# Altium integrated library Linear Technology Power Management LED Driver ICs.IntLib: 490 symbols (part 1 of 48)
Pins are listed as number, name and electrical type; pins without a type are passive.

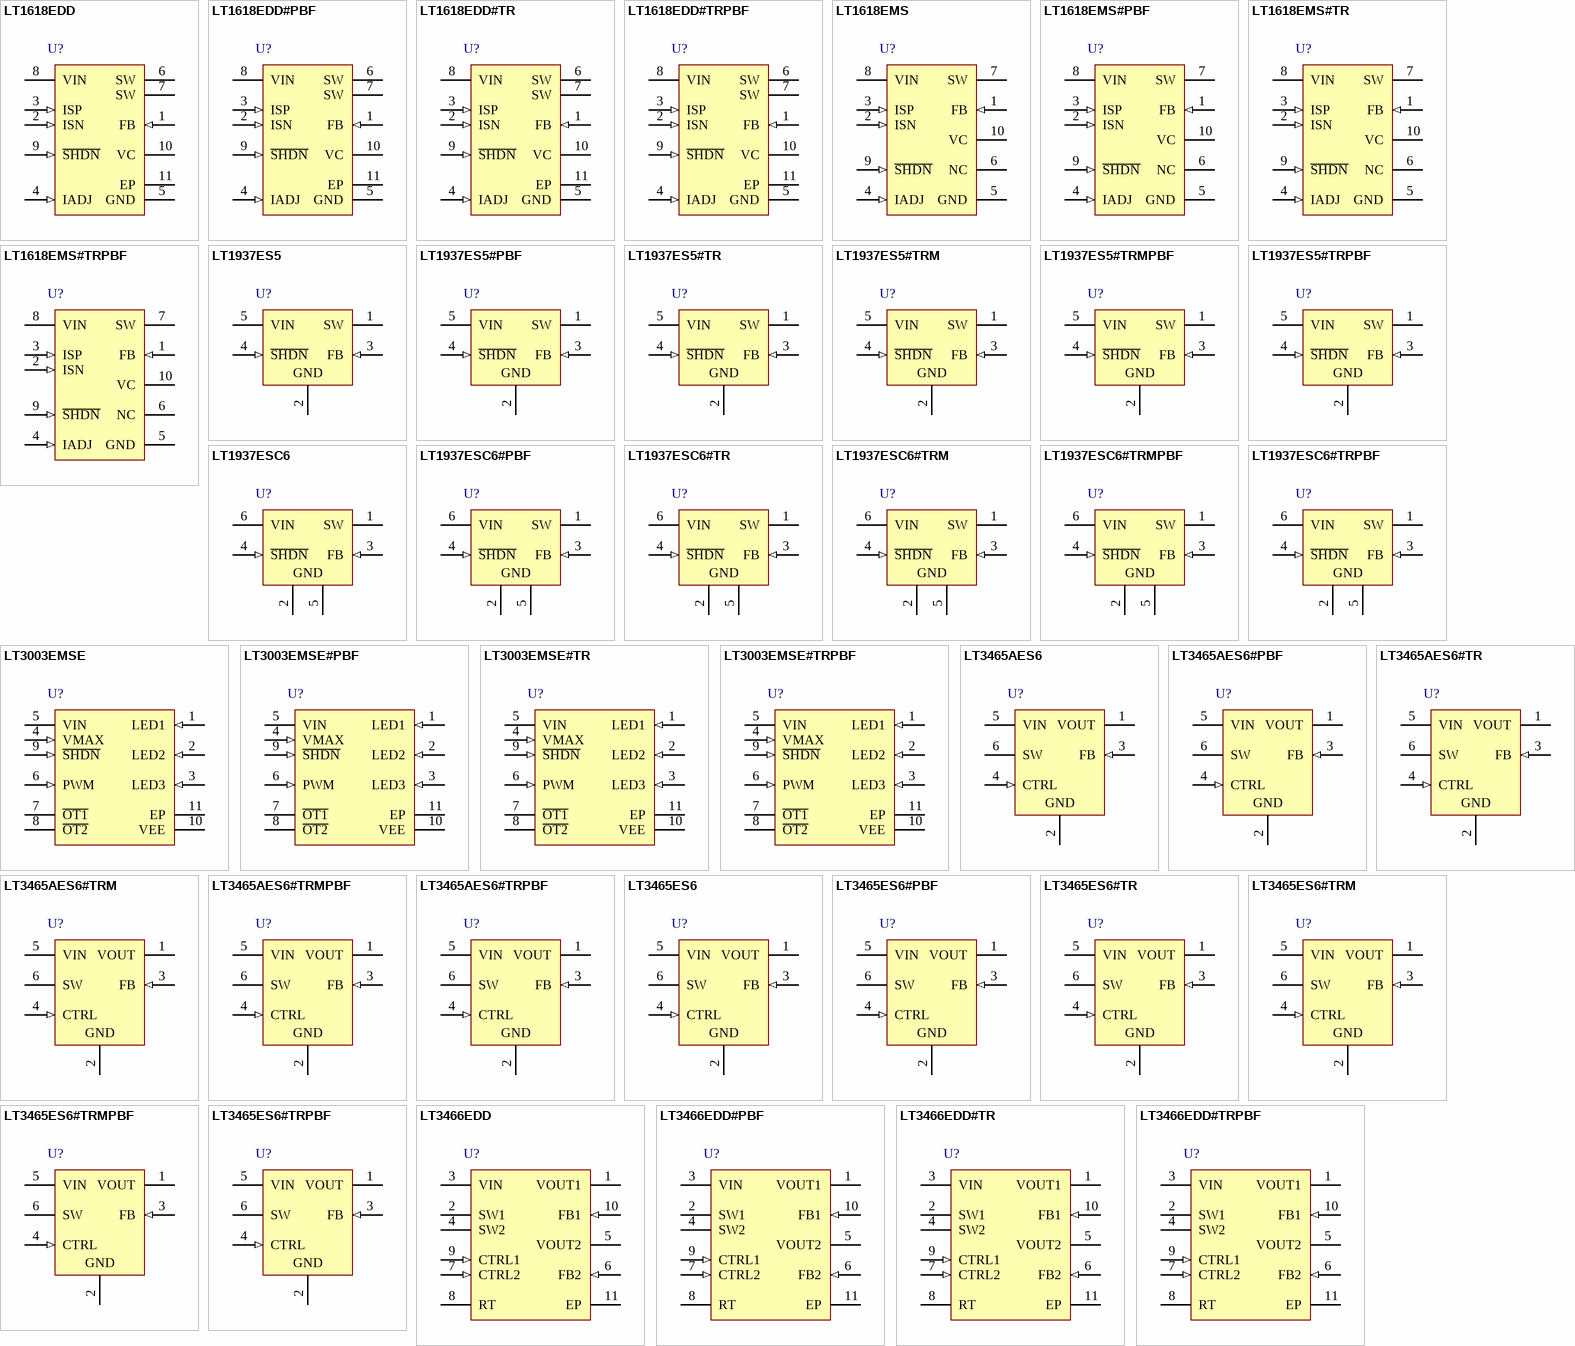
[diagram p0: symbols LT1618EDD to LT3466EDD#TRPBF]

## LT1618EDD
designator U?
Constant Current / Voltage 1.4 MHz Step-Up DC/DC Converter, 1.6 to 18 V Vin, 35 V Vout MAX, 10-pin SON (DD-10), -40 to 85 degC; Manufacturer: Linear Technology; PartNumber: LT1618EDD; Topology: Boost, Sepic, Flyback; Vin Min(V): 1.6; DatasheetVersion: Rev. A; PackageReference: DD-10; PackageDescription: 10-Pin Plastic DFN, Body 3 x 3 mm, Pitch 0.5 mm; Supplier 1: Digi-Key; Supplier Part Number 1: LT1618EDD-ND; RoHS: FALSE; Mounting Technology: Surface Mount; Code_JEDEC: MO-229; ComponentLink1Description: Manufacturer URL; ComponentLink1URL: http://www.linear.com/; ComponentLink2Description: Datasheet; ComponentLink2URL: http://cds.linear.com/docs/en/datasheet/1618fas.pdf; ComponentLink3Description: Package Specification; ComponentLink3URL: http://cds.linear.com/docs/en/datasheet/1618fas.pdf
footprint LT-DD-10-05-08-1698_V (SON, 10-Leads, Body 3x3mm, Pitch 0.5mm, Thermal Pad 1.65x2.38mm)
pins: 1 FB (in) "Feedback Pin. Set the output voltage by selecting values for R1 and R2 (see Figure 1):R1=R2(VOUT/1.263V-1)", 2 ISN (in) "Current Sense (-) Pin. The inverting input to the current sense amplifier.", 3 ISP (in) "Current Sense (+) Pin. The noninverting input to the current sense amplifier.", 4 IADJ (in) "Current Sense Adjust Pin. A DC voltage applied to this pin will reduce the current sense voltage. If this adjustment is not needed, tie this pin to ground.", 5 GND (power) "Ground Pin. Tie this pin directly to local ground plane.", 6 SW (power) "Switch Pin for DD Package. Connect this pin to Pin 7.", 7 SW (power) "Switch Pin. This is the collector of the internal NPN power switch. Minimize the metal trace area connected to this pin to minimize EMI.", 8 VIN (power) "Input Supply Pin. Bypass this pin with a capacitor to ground as close to the device as possible.", 9 ~{SHDN} (in) "Shutdown Pin. Tie this pin higher than 1V to turn on the LT1618; tie below 0.3V to turn it off.", 10 VC "Compensation Pin for Error Amplifier. Connect a series RC from this pin to ground. Typical values are 2kohm and 10nF.", 11 EP (power) "The Exposed Pad on the DD package is GND and must be soldered to the PCB GND for optimum thermal performance."

## LT1618EDD#PBF
designator U?
Constant Current / Voltage 1.4 MHz Step-Up DC/DC Converter, 1.6 to 18 V Vin, 35 V Vout MAX, 10-pin SON (DD-10), -40 to 85 degC, Pb-Free; Manufacturer: Linear Technology; PartNumber: LT1618EDD#PBF; Topology: Boost, Sepic, Flyback; Vin Min(V): 1.6; DatasheetVersion: Rev. A; PackageReference: DD-10; PackageDescription: 10-Pin Plastic DFN, Body 3 x 3 mm, Pitch 0.5 mm; Supplier 1: Digi-Key; Supplier Part Number 1: LT1618EDD#PBF-ND; Supplier 2: Farnell; Supplier Part Number 2: 2252766; Supplier 3: Newark; Supplier Part Number 3: 57M5244; RoHS: TRUE; Mounting Technology: Surface Mount; Code_JEDEC: MO-229; ComponentLink1Description: Manufacturer URL; ComponentLink1URL: http://www.linear.com/; ComponentLink2Description: Datasheet; ComponentLink2URL: http://cds.linear.com/docs/en/datasheet/1618fas.pdf; ComponentLink3Description: Package Specification; ComponentLink3URL: http://cds.linear.com/docs/en/datasheet/1618fas.pdf
footprint LT-DD-10-05-08-1698_V (SON, 10-Leads, Body 3x3mm, Pitch 0.5mm, Thermal Pad 1.65x2.38mm)
pins: 1 FB (in) "Feedback Pin. Set the output voltage by selecting values for R1 and R2 (see Figure 1):R1=R2(VOUT/1.263V-1)", 2 ISN (in) "Current Sense (-) Pin. The inverting input to the current sense amplifier.", 3 ISP (in) "Current Sense (+) Pin. The noninverting input to the current sense amplifier.", 4 IADJ (in) "Current Sense Adjust Pin. A DC voltage applied to this pin will reduce the current sense voltage. If this adjustment is not needed, tie this pin to ground.", 5 GND (power) "Ground Pin. Tie this pin directly to local ground plane.", 6 SW (power) "Switch Pin for DD Package. Connect this pin to Pin 7.", 7 SW (power) "Switch Pin. This is the collector of the internal NPN power switch. Minimize the metal trace area connected to this pin to minimize EMI.", 8 VIN (power) "Input Supply Pin. Bypass this pin with a capacitor to ground as close to the device as possible.", 9 ~{SHDN} (in) "Shutdown Pin. Tie this pin higher than 1V to turn on the LT1618; tie below 0.3V to turn it off.", 10 VC "Compensation Pin for Error Amplifier. Connect a series RC from this pin to ground. Typical values are 2kohm and 10nF.", 11 EP (power) "The Exposed Pad on the DD package is GND and must be soldered to the PCB GND for optimum thermal performance."

## LT1618EDD#TR
designator U?
Constant Current / Voltage 1.4 MHz Step-Up DC/DC Converter, 1.6 to 18 V Vin, 35 V Vout MAX, 10-pin SON (DD-10), -40 to 85 degC, Tape and Reel; Manufacturer: Linear Technology; PartNumber: LT1618EDD#TR; Topology: Boost, Sepic, Flyback; Vin Min(V): 1.6; DatasheetVersion: Rev. A; PackageReference: DD-10; PackageDescription: 10-Pin Plastic DFN, Body 3 x 3 mm, Pitch 0.5 mm; Supplier 1: Digi-Key; Supplier Part Number 1: LT1618EDD#TR-ND; Packing: Tape and Reel; RoHS: FALSE; Mounting Technology: Surface Mount; Code_JEDEC: MO-229; ComponentLink1Description: Manufacturer URL; ComponentLink1URL: http://www.linear.com/; ComponentLink2Description: Datasheet; ComponentLink2URL: http://cds.linear.com/docs/en/datasheet/1618fas.pdf; ComponentLink3Description: Package Specification; ComponentLink3URL: http://cds.linear.com/docs/en/datasheet/1618fas.pdf
footprint LT-DD-10-05-08-1698_V (SON, 10-Leads, Body 3x3mm, Pitch 0.5mm, Thermal Pad 1.65x2.38mm)
pins: 1 FB (in) "Feedback Pin. Set the output voltage by selecting values for R1 and R2 (see Figure 1):R1=R2(VOUT/1.263V-1)", 2 ISN (in) "Current Sense (-) Pin. The inverting input to the current sense amplifier.", 3 ISP (in) "Current Sense (+) Pin. The noninverting input to the current sense amplifier.", 4 IADJ (in) "Current Sense Adjust Pin. A DC voltage applied to this pin will reduce the current sense voltage. If this adjustment is not needed, tie this pin to ground.", 5 GND (power) "Ground Pin. Tie this pin directly to local ground plane.", 6 SW (power) "Switch Pin for DD Package. Connect this pin to Pin 7.", 7 SW (power) "Switch Pin. This is the collector of the internal NPN power switch. Minimize the metal trace area connected to this pin to minimize EMI.", 8 VIN (power) "Input Supply Pin. Bypass this pin with a capacitor to ground as close to the device as possible.", 9 ~{SHDN} (in) "Shutdown Pin. Tie this pin higher than 1V to turn on the LT1618; tie below 0.3V to turn it off.", 10 VC "Compensation Pin for Error Amplifier. Connect a series RC from this pin to ground. Typical values are 2kohm and 10nF.", 11 EP (power) "The Exposed Pad on the DD package is GND and must be soldered to the PCB GND for optimum thermal performance."

## LT1618EDD#TRPBF
designator U?
Constant Current / Voltage 1.4 MHz Step-Up DC/DC Converter, 1.6 to 18 V Vin, 35 V Vout MAX, 10-pin SON (DD-10), -40 to 85 degC, Pb-Free, Tape and Reel; Manufacturer: Linear Technology; PartNumber: LT1618EDD#TRPBF; Topology: Boost, Sepic, Flyback; Vin Min(V): 1.6; DatasheetVersion: Rev. A; PackageReference: DD-10; PackageDescription: 10-Pin Plastic DFN, Body 3 x 3 mm, Pitch 0.5 mm; Supplier 1: Digi-Key; Supplier Part Number 1: LT1618EDD#TRPBF-ND; Supplier 2: Newark; Supplier Part Number 2: 57M5246; Packing: Tape and Reel; RoHS: TRUE; Mounting Technology: Surface Mount; Code_JEDEC: MO-229; ComponentLink1Description: Manufacturer URL; ComponentLink1URL: http://www.linear.com/; ComponentLink2Description: Datasheet; ComponentLink2URL: http://cds.linear.com/docs/en/datasheet/1618fas.pdf; ComponentLink3Description: Package Specification; ComponentLink3URL: http://cds.linear.com/docs/en/datasheet/1618fas.pdf
footprint LT-DD-10-05-08-1698_V (SON, 10-Leads, Body 3x3mm, Pitch 0.5mm, Thermal Pad 1.65x2.38mm)
pins: 1 FB (in) "Feedback Pin. Set the output voltage by selecting values for R1 and R2 (see Figure 1):R1=R2(VOUT/1.263V-1)", 2 ISN (in) "Current Sense (-) Pin. The inverting input to the current sense amplifier.", 3 ISP (in) "Current Sense (+) Pin. The noninverting input to the current sense amplifier.", 4 IADJ (in) "Current Sense Adjust Pin. A DC voltage applied to this pin will reduce the current sense voltage. If this adjustment is not needed, tie this pin to ground.", 5 GND (power) "Ground Pin. Tie this pin directly to local ground plane.", 6 SW (power) "Switch Pin for DD Package. Connect this pin to Pin 7.", 7 SW (power) "Switch Pin. This is the collector of the internal NPN power switch. Minimize the metal trace area connected to this pin to minimize EMI.", 8 VIN (power) "Input Supply Pin. Bypass this pin with a capacitor to ground as close to the device as possible.", 9 ~{SHDN} (in) "Shutdown Pin. Tie this pin higher than 1V to turn on the LT1618; tie below 0.3V to turn it off.", 10 VC "Compensation Pin for Error Amplifier. Connect a series RC from this pin to ground. Typical values are 2kohm and 10nF.", 11 EP (power) "The Exposed Pad on the DD package is GND and must be soldered to the PCB GND for optimum thermal performance."

## LT1618EMS
designator U?
Constant Current / Voltage 1.4 MHz Step-Up DC/DC Converter, 1.6 to 18 V Vin, 35 V Vout MAX, 10-pin SOP (MS-10), -40 to 85 degC; Manufacturer: Linear Technology; PartNumber: LT1618EMS; Topology: Boost, Sepic, Flyback; Vin Min(V): 1.6; DatasheetVersion: Rev. A; PackageVersion: Rev. E, 06/2010; PackageReference: MS-10; PackageDescription: 10-Pin Plastic MSOP, Body 3 x 3 mm, Pitch 0.5 mm; Supplier 1: Digi-Key; Supplier Part Number 1: LT1618EMS-ND; Supplier 2: Newark; Supplier Part Number 2: 57M5247; RoHS: FALSE; Mounting Technology: Surface Mount; ComponentLink1Description: Manufacturer URL; ComponentLink1URL: http://www.linear.com/; ComponentLink2Description: Datasheet; ComponentLink2URL: http://cds.linear.com/docs/en/datasheet/1618fas.pdf; ComponentLink3Description: Package Specification; ComponentLink3URL: http://cds.linear.com/docs/en/packaging/05081661_F_MS.pdf
footprint LT-MS-10_N (SOP, 10-Leads, Body 3.1x3.1mm, Pitch 0.5mm, IPC Medium Density)
footprint LT-MS-10_L (SOP, 10-Leads, Body 3.1x3.1mm, Pitch 0.5mm, IPC High Density)
footprint LT-MS-10_M (SOP, 10-Leads, Body 3.1x3.1mm, Pitch 0.5mm, IPC Low Density)
pins: 1 FB (in) "Feedback Pin. Set the output voltage by selecting values for R1 and R2 (see Figure 1):R1=R2(VOUT/1.263V-1)", 2 ISN (in) "Current Sense (-) Pin. The inverting input to the current sense amplifier.", 3 ISP (in) "Current Sense (+) Pin. The noninverting input to the current sense amplifier.", 4 IADJ (in) "Current Sense Adjust Pin. A DC voltage applied to this pin will reduce the current sense voltage. If this adjustment is not needed, tie this pin to ground.", 5 GND (power) "Ground Pin. Tie this pin directly to local ground plane.", 6 NC "No Connection for MS Package.", 7 SW (power) "Switch Pin. This is the collector of the internal NPN power switch. Minimize the metal trace area connected to this pin to minimize EMI.", 8 VIN (power) "Input Supply Pin. Bypass this pin with a capacitor to ground as close to the device as possible.", 9 ~{SHDN} (in) "Shutdown Pin. Tie this pin higher than 1V to turn on the LT1618; tie below 0.3V to turn it off.", 10 VC "Compensation Pin for Error Amplifier. Connect a series RC from this pin to ground. Typical values are 2kohm and 10nF."

## LT1618EMS#PBF
designator U?
Constant Current / Voltage 1.4 MHz Step-Up DC/DC Converter, 1.6 to 18 V Vin, 35 V Vout MAX, 10-pin SOP (MS-10), -40 to 85 degC, Pb-Free; Manufacturer: Linear Technology; PartNumber: LT1618EMS#PBF; Topology: Boost, Sepic, Flyback; Vin Min(V): 1.6; DatasheetVersion: Rev. A; PackageVersion: Rev. E, 06/2010; PackageReference: MS-10; PackageDescription: 10-Pin Plastic MSOP, Body 3 x 3 mm, Pitch 0.5 mm; Supplier 1: Digi-Key; Supplier Part Number 1: LT1618EMS#PBF-ND; Supplier 2: Newark; Supplier Part Number 2: 57M5248; RoHS: TRUE; Mounting Technology: Surface Mount; ComponentLink1Description: Manufacturer URL; ComponentLink1URL: http://www.linear.com/; ComponentLink2Description: Datasheet; ComponentLink2URL: http://cds.linear.com/docs/en/datasheet/1618fas.pdf; ComponentLink3Description: Package Specification; ComponentLink3URL: http://cds.linear.com/docs/en/packaging/05081661_F_MS.pdf
footprint LT-MS-10_N (SOP, 10-Leads, Body 3.1x3.1mm, Pitch 0.5mm, IPC Medium Density)
footprint LT-MS-10_L (SOP, 10-Leads, Body 3.1x3.1mm, Pitch 0.5mm, IPC High Density)
footprint LT-MS-10_M (SOP, 10-Leads, Body 3.1x3.1mm, Pitch 0.5mm, IPC Low Density)
pins: 1 FB (in) "Feedback Pin. Set the output voltage by selecting values for R1 and R2 (see Figure 1):R1=R2(VOUT/1.263V-1)", 2 ISN (in) "Current Sense (-) Pin. The inverting input to the current sense amplifier.", 3 ISP (in) "Current Sense (+) Pin. The noninverting input to the current sense amplifier.", 4 IADJ (in) "Current Sense Adjust Pin. A DC voltage applied to this pin will reduce the current sense voltage. If this adjustment is not needed, tie this pin to ground.", 5 GND (power) "Ground Pin. Tie this pin directly to local ground plane.", 6 NC "No Connection for MS Package.", 7 SW (power) "Switch Pin. This is the collector of the internal NPN power switch. Minimize the metal trace area connected to this pin to minimize EMI.", 8 VIN (power) "Input Supply Pin. Bypass this pin with a capacitor to ground as close to the device as possible.", 9 ~{SHDN} (in) "Shutdown Pin. Tie this pin higher than 1V to turn on the LT1618; tie below 0.3V to turn it off.", 10 VC "Compensation Pin for Error Amplifier. Connect a series RC from this pin to ground. Typical values are 2kohm and 10nF."

## LT1618EMS#TR
designator U?
Constant Current / Voltage 1.4 MHz Step-Up DC/DC Converter, 1.6 to 18 V Vin, 35 V Vout MAX, 10-pin SOP (MS-10), -40 to 85 degC, Tape and Reel; Manufacturer: Linear Technology; PartNumber: LT1618EMS#TR; Topology: Boost, Sepic, Flyback; Vin Min(V): 1.6; DatasheetVersion: Rev. A; PackageVersion: Rev. E, 06/2010; PackageReference: MS-10; PackageDescription: 10-Pin Plastic MSOP, Body 3 x 3 mm, Pitch 0.5 mm; Supplier 1: Digi-Key; Supplier Part Number 1: LT1618EMSTR-ND; Packing: Tape and Reel; RoHS: FALSE; Mounting Technology: Surface Mount; ComponentLink1Description: Manufacturer URL; ComponentLink1URL: http://www.linear.com/; ComponentLink2Description: Datasheet; ComponentLink2URL: http://cds.linear.com/docs/en/datasheet/1618fas.pdf; ComponentLink3Description: Package Specification; ComponentLink3URL: http://cds.linear.com/docs/en/packaging/05081661_F_MS.pdf
footprint LT-MS-10_N (SOP, 10-Leads, Body 3.1x3.1mm, Pitch 0.5mm, IPC Medium Density)
footprint LT-MS-10_L (SOP, 10-Leads, Body 3.1x3.1mm, Pitch 0.5mm, IPC High Density)
footprint LT-MS-10_M (SOP, 10-Leads, Body 3.1x3.1mm, Pitch 0.5mm, IPC Low Density)
pins: 1 FB (in) "Feedback Pin. Set the output voltage by selecting values for R1 and R2 (see Figure 1):R1=R2(VOUT/1.263V-1)", 2 ISN (in) "Current Sense (-) Pin. The inverting input to the current sense amplifier.", 3 ISP (in) "Current Sense (+) Pin. The noninverting input to the current sense amplifier.", 4 IADJ (in) "Current Sense Adjust Pin. A DC voltage applied to this pin will reduce the current sense voltage. If this adjustment is not needed, tie this pin to ground.", 5 GND (power) "Ground Pin. Tie this pin directly to local ground plane.", 6 NC "No Connection for MS Package.", 7 SW (power) "Switch Pin. This is the collector of the internal NPN power switch. Minimize the metal trace area connected to this pin to minimize EMI.", 8 VIN (power) "Input Supply Pin. Bypass this pin with a capacitor to ground as close to the device as possible.", 9 ~{SHDN} (in) "Shutdown Pin. Tie this pin higher than 1V to turn on the LT1618; tie below 0.3V to turn it off.", 10 VC "Compensation Pin for Error Amplifier. Connect a series RC from this pin to ground. Typical values are 2kohm and 10nF."

## LT1618EMS#TRPBF
designator U?
Constant Current / Voltage 1.4 MHz Step-Up DC/DC Converter, 1.6 to 18 V Vin, 35 V Vout MAX, 10-pin SOP (MS-10), -40 to 85 degC, Pb-Free, Tape and Reel; Manufacturer: Linear Technology; PartNumber: LT1618EMS#TRPBF; Topology: Boost, Sepic, Flyback; Vin Min(V): 1.6; DatasheetVersion: Rev. A; PackageVersion: Rev. E, 06/2010; PackageReference: MS-10; PackageDescription: 10-Pin Plastic MSOP, Body 3 x 3 mm, Pitch 0.5 mm; Supplier 1: Digi-Key; Supplier Part Number 1: LT1618EMS#TRPBFTR-ND; Supplier 2: Digi-Key; Supplier Part Number 2: LT1618EMS#TRPBFCT-ND; Supplier 3: Digi-Key; Supplier Part Number 3: LT1618EMS#TRPBFDKR-ND; Supplier 4: Newark; Supplier Part Number 4: 57M5250; Packing: Tape and Reel; RoHS: TRUE; Mounting Technology: Surface Mount; ComponentLink1Description: Manufacturer URL; ComponentLink1URL: http://www.linear.com/; ComponentLink2Description: Datasheet; ComponentLink2URL: http://cds.linear.com/docs/en/datasheet/1618fas.pdf; ComponentLink3Description: Package Specification; ComponentLink3URL: http://cds.linear.com/docs/en/packaging/05081661_F_MS.pdf
footprint LT-MS-10_N (SOP, 10-Leads, Body 3.1x3.1mm, Pitch 0.5mm, IPC Medium Density)
footprint LT-MS-10_L (SOP, 10-Leads, Body 3.1x3.1mm, Pitch 0.5mm, IPC High Density)
footprint LT-MS-10_M (SOP, 10-Leads, Body 3.1x3.1mm, Pitch 0.5mm, IPC Low Density)
pins: 1 FB (in) "Feedback Pin. Set the output voltage by selecting values for R1 and R2 (see Figure 1):R1=R2(VOUT/1.263V-1)", 2 ISN (in) "Current Sense (-) Pin. The inverting input to the current sense amplifier.", 3 ISP (in) "Current Sense (+) Pin. The noninverting input to the current sense amplifier.", 4 IADJ (in) "Current Sense Adjust Pin. A DC voltage applied to this pin will reduce the current sense voltage. If this adjustment is not needed, tie this pin to ground.", 5 GND (power) "Ground Pin. Tie this pin directly to local ground plane.", 6 NC "No Connection for MS Package.", 7 SW (power) "Switch Pin. This is the collector of the internal NPN power switch. Minimize the metal trace area connected to this pin to minimize EMI.", 8 VIN (power) "Input Supply Pin. Bypass this pin with a capacitor to ground as close to the device as possible.", 9 ~{SHDN} (in) "Shutdown Pin. Tie this pin higher than 1V to turn on the LT1618; tie below 0.3V to turn it off.", 10 VC "Compensation Pin for Error Amplifier. Connect a series RC from this pin to ground. Typical values are 2kohm and 10nF."

## LT1937ES5
designator U?
84%, Constant-Current / Voltage Ideal for Driving 4 White LEDs, 2.5 to 10 V Vin, 36 V Vout MAX, 5-pin SOT23 (S5-5), -40 to 85 degC; Manufacturer: Linear Technology; PartNumber: LT1937ES5; Topology: Boost, LED Driver; Vin Min(V): 2.5; PackageVersion: Jun-10; PackageReference: S5-5; PackageDescription: 5-Pin Plastic TSOT-23, Body 1.63 x 2.90 mm, Pitch 0.95 mm; RoHS: FALSE; Mounting Technology: Surface Mount; Code_JEDEC: MO-193; ComponentLink1Description: Manufacturer URL; ComponentLink1URL: http://www.linear.com/; ComponentLink2Description: Datasheet; ComponentLink2URL: http://cds.linear.com/docs/en/datasheet/1937f.pdf; ComponentLink3Description: Package Specification; ComponentLink3URL: http://cds.linear.com/docs/en/packaging/SOT_5_05-08-1635.pdf
footprint LT-S5-5-TSOT-23_N (SOT23, 5-Leads, Body 2.90x1.63mm, Pitch 0.95mm, IPC Medium Density)
footprint LT-S5-5-TSOT-23_L (SOT23, 5-Leads, Body 2.90x1.63mm, Pitch 0.95mm, IPC High Density)
footprint LT-S5-5-TSOT-23_M (SOT23, 5-Leads, Body 2.90x1.63mm, Pitch 0.95mm, IPC Low Density)
pins: 1 SW (power) "Switch Pin. Connect inductor/diode here.Minimize trace area at this pin to reduce EMI.", 2 GND (power) "Ground Pin. Connect directly to local ground plane.", 3 FB (in) "Feedback Pin. Reference voltage is 95mV. Connect cathode of lowest LED and resistor here.", 4 ~{SHDN} (in) "Shutdown Pin. Connect to 1.5V or higher to enable device; 0.4V or less to disable device.", 5 VIN (power) "Input Supply Pin. Must be locally bypassed."

## LT1937ES5#PBF
designator U?
84%, Constant-Current / Voltage Ideal for Driving 4 White LEDs, 2.5 to 10 V Vin, 36 V Vout MAX, 5-pin SOT23 (S5-5), -40 to 85 degC, Pb-Free; Manufacturer: Linear Technology; PartNumber: LT1937ES5#PBF; Topology: Boost, LED Driver; Vin Min(V): 2.5; PackageVersion: Jun-10; PackageReference: S5-5; PackageDescription: 5-Pin Plastic TSOT-23, Body 1.63 x 2.90 mm, Pitch 0.95 mm; Supplier 1: Farnell; Supplier Part Number 1: 2308191; Supplier 2: Newark; Supplier Part Number 2: 78T3769; RoHS: TRUE; Mounting Technology: Surface Mount; Code_JEDEC: MO-193; ComponentLink1Description: Manufacturer URL; ComponentLink1URL: http://www.linear.com/; ComponentLink2Description: Datasheet; ComponentLink2URL: http://cds.linear.com/docs/en/datasheet/1937f.pdf; ComponentLink3Description: Package Specification; ComponentLink3URL: http://cds.linear.com/docs/en/packaging/SOT_5_05-08-1635.pdf
footprint LT-S5-5-TSOT-23_N (SOT23, 5-Leads, Body 2.90x1.63mm, Pitch 0.95mm, IPC Medium Density)
footprint LT-S5-5-TSOT-23_L (SOT23, 5-Leads, Body 2.90x1.63mm, Pitch 0.95mm, IPC High Density)
footprint LT-S5-5-TSOT-23_M (SOT23, 5-Leads, Body 2.90x1.63mm, Pitch 0.95mm, IPC Low Density)
pins: 1 SW (power) "Switch Pin. Connect inductor/diode here.Minimize trace area at this pin to reduce EMI.", 2 GND (power) "Ground Pin. Connect directly to local ground plane.", 3 FB (in) "Feedback Pin. Reference voltage is 95mV. Connect cathode of lowest LED and resistor here.", 4 ~{SHDN} (in) "Shutdown Pin. Connect to 1.5V or higher to enable device; 0.4V or less to disable device.", 5 VIN (power) "Input Supply Pin. Must be locally bypassed."

## LT1937ES5#TR
designator U?
84%, Constant-Current / Voltage Ideal for Driving 4 White LEDs, 2.5 to 10 V Vin, 36 V Vout MAX, 5-pin SOT23 (S5-5), -40 to 85 degC, Tape and Reel; Manufacturer: Linear Technology; PartNumber: LT1937ES5#TR; Topology: Boost, LED Driver; Vin Min(V): 2.5; PackageVersion: Jun-10; PackageReference: S5-5; PackageDescription: 5-Pin Plastic TSOT-23, Body 1.63 x 2.90 mm, Pitch 0.95 mm; Supplier 1: Digi-Key; Supplier Part Number 1: LT1937ES5TR-ND; Packing: Tape and Reel; RoHS: FALSE; Mounting Technology: Surface Mount; Code_JEDEC: MO-193; ComponentLink1Description: Manufacturer URL; ComponentLink1URL: http://www.linear.com/; ComponentLink2Description: Datasheet; ComponentLink2URL: http://cds.linear.com/docs/en/datasheet/1937f.pdf; ComponentLink3Description: Package Specification; ComponentLink3URL: http://cds.linear.com/docs/en/packaging/SOT_5_05-08-1635.pdf
footprint LT-S5-5-TSOT-23_N (SOT23, 5-Leads, Body 2.90x1.63mm, Pitch 0.95mm, IPC Medium Density)
footprint LT-S5-5-TSOT-23_L (SOT23, 5-Leads, Body 2.90x1.63mm, Pitch 0.95mm, IPC High Density)
footprint LT-S5-5-TSOT-23_M (SOT23, 5-Leads, Body 2.90x1.63mm, Pitch 0.95mm, IPC Low Density)
pins: 1 SW (power) "Switch Pin. Connect inductor/diode here.Minimize trace area at this pin to reduce EMI.", 2 GND (power) "Ground Pin. Connect directly to local ground plane.", 3 FB (in) "Feedback Pin. Reference voltage is 95mV. Connect cathode of lowest LED and resistor here.", 4 ~{SHDN} (in) "Shutdown Pin. Connect to 1.5V or higher to enable device; 0.4V or less to disable device.", 5 VIN (power) "Input Supply Pin. Must be locally bypassed."

## LT1937ES5#TRM
designator U?
84%, Constant-Current / Voltage Ideal for Driving 4 White LEDs, 2.5 to 10 V Vin, 36 V Vout MAX, 5-pin SOT23 (S5-5), -40 to 85 degC, Mini Tape and Reel; Manufacturer: Linear Technology; PartNumber: LT1937ES5#TRM; Topology: Boost, LED Driver; Vin Min(V): 2.5; PackageVersion: Jun-10; PackageReference: S5-5; PackageDescription: 5-Pin Plastic TSOT-23, Body 1.63 x 2.90 mm, Pitch 0.95 mm; Supplier 1: Digi-Key; Supplier Part Number 1: LT1937ES5#TRMCT-ND; Packing: Mini Tape and Reel; RoHS: FALSE; Mounting Technology: Surface Mount; Code_JEDEC: MO-193; ComponentLink1Description: Manufacturer URL; ComponentLink1URL: http://www.linear.com/; ComponentLink2Description: Datasheet; ComponentLink2URL: http://cds.linear.com/docs/en/datasheet/1937f.pdf; ComponentLink3Description: Package Specification; ComponentLink3URL: http://cds.linear.com/docs/en/packaging/SOT_5_05-08-1635.pdf
footprint LT-S5-5-TSOT-23_N (SOT23, 5-Leads, Body 2.90x1.63mm, Pitch 0.95mm, IPC Medium Density)
footprint LT-S5-5-TSOT-23_L (SOT23, 5-Leads, Body 2.90x1.63mm, Pitch 0.95mm, IPC High Density)
footprint LT-S5-5-TSOT-23_M (SOT23, 5-Leads, Body 2.90x1.63mm, Pitch 0.95mm, IPC Low Density)
pins: 1 SW (power) "Switch Pin. Connect inductor/diode here.Minimize trace area at this pin to reduce EMI.", 2 GND (power) "Ground Pin. Connect directly to local ground plane.", 3 FB (in) "Feedback Pin. Reference voltage is 95mV. Connect cathode of lowest LED and resistor here.", 4 ~{SHDN} (in) "Shutdown Pin. Connect to 1.5V or higher to enable device; 0.4V or less to disable device.", 5 VIN (power) "Input Supply Pin. Must be locally bypassed."

## LT1937ES5#TRMPBF
designator U?
84%, Constant-Current / Voltage Ideal for Driving 4 White LEDs, 2.5 to 10 V Vin, 36 V Vout MAX, 5-pin SOT23 (S5-5), -40 to 85 degC, Pb-Free, Mini Tape and Reel; Manufacturer: Linear Technology; PartNumber: LT1937ES5#TRMPBF; Topology: Boost, LED Driver; Vin Min(V): 2.5; PackageVersion: Jun-10; PackageReference: S5-5; PackageDescription: 5-Pin Plastic TSOT-23, Body 1.63 x 2.90 mm, Pitch 0.95 mm; Supplier 1: Digi-Key; Supplier Part Number 1: LT1937ES5#TRMPBFTR-ND; Supplier 2: Digi-Key; Supplier Part Number 2: LT1937ES5#TRMPBFCT-ND; Supplier 3: Digi-Key; Supplier Part Number 3: LT1937ES5#TRMPBFDKR-ND; Supplier 4: Newark; Supplier Part Number 4: 57M7239; Packing: Mini Tape and Reel; RoHS: TRUE; Mounting Technology: Surface Mount; Code_JEDEC: MO-193; ComponentLink1Description: Manufacturer URL; ComponentLink1URL: http://www.linear.com/; ComponentLink2Description: Datasheet; ComponentLink2URL: http://cds.linear.com/docs/en/datasheet/1937f.pdf; ComponentLink3Description: Package Specification; ComponentLink3URL: http://cds.linear.com/docs/en/packaging/SOT_5_05-08-1635.pdf
footprint LT-S5-5-TSOT-23_N (SOT23, 5-Leads, Body 2.90x1.63mm, Pitch 0.95mm, IPC Medium Density)
footprint LT-S5-5-TSOT-23_L (SOT23, 5-Leads, Body 2.90x1.63mm, Pitch 0.95mm, IPC High Density)
footprint LT-S5-5-TSOT-23_M (SOT23, 5-Leads, Body 2.90x1.63mm, Pitch 0.95mm, IPC Low Density)
pins: 1 SW (power) "Switch Pin. Connect inductor/diode here.Minimize trace area at this pin to reduce EMI.", 2 GND (power) "Ground Pin. Connect directly to local ground plane.", 3 FB (in) "Feedback Pin. Reference voltage is 95mV. Connect cathode of lowest LED and resistor here.", 4 ~{SHDN} (in) "Shutdown Pin. Connect to 1.5V or higher to enable device; 0.4V or less to disable device.", 5 VIN (power) "Input Supply Pin. Must be locally bypassed."

## LT1937ES5#TRPBF
designator U?
84%, Constant-Current / Voltage Ideal for Driving 4 White LEDs, 2.5 to 10 V Vin, 36 V Vout MAX, 5-pin SOT23 (S5-5), -40 to 85 degC, Pb-Free, Tape and Reel; Manufacturer: Linear Technology; PartNumber: LT1937ES5#TRPBF; Topology: Boost, LED Driver; Vin Min(V): 2.5; PackageVersion: Jun-10; PackageReference: S5-5; PackageDescription: 5-Pin Plastic TSOT-23, Body 1.63 x 2.90 mm, Pitch 0.95 mm; Supplier 1: Digi-Key; Supplier Part Number 1: LT1937ES5#TRPBF-ND; Packing: Tape and Reel; RoHS: TRUE; Mounting Technology: Surface Mount; Code_JEDEC: MO-193; ComponentLink1Description: Manufacturer URL; ComponentLink1URL: http://www.linear.com/; ComponentLink2Description: Datasheet; ComponentLink2URL: http://cds.linear.com/docs/en/datasheet/1937f.pdf; ComponentLink3Description: Package Specification; ComponentLink3URL: http://cds.linear.com/docs/en/packaging/SOT_5_05-08-1635.pdf
footprint LT-S5-5-TSOT-23_N (SOT23, 5-Leads, Body 2.90x1.63mm, Pitch 0.95mm, IPC Medium Density)
footprint LT-S5-5-TSOT-23_L (SOT23, 5-Leads, Body 2.90x1.63mm, Pitch 0.95mm, IPC High Density)
footprint LT-S5-5-TSOT-23_M (SOT23, 5-Leads, Body 2.90x1.63mm, Pitch 0.95mm, IPC Low Density)
pins: 1 SW (power) "Switch Pin. Connect inductor/diode here.Minimize trace area at this pin to reduce EMI.", 2 GND (power) "Ground Pin. Connect directly to local ground plane.", 3 FB (in) "Feedback Pin. Reference voltage is 95mV. Connect cathode of lowest LED and resistor here.", 4 ~{SHDN} (in) "Shutdown Pin. Connect to 1.5V or higher to enable device; 0.4V or less to disable device.", 5 VIN (power) "Input Supply Pin. Must be locally bypassed."

## LT1937ESC6
designator U?
84%, Constant-Current / Voltage Ideal for Driving 4 White LEDs, 2.5 to 10 V Vin, 36 V Vout MAX, 6-pin SOT23 (SC6-6), -40 to 85 degC; Manufacturer: Linear Technology; PartNumber: LT1937ESC6; Topology: Boost, LED Driver; Vin Min(V): 2.5; PackageVersion: Rev. B, 06/2010; PackageReference: SC6-6; PackageDescription: 6-Pin Plastic SC70, Body 2 x 1.25 mm, Pitch 0.65 mm; RoHS: FALSE; Mounting Technology: Surface Mount; Code_JEDEC: MO-203; ComponentLink1Description: Manufacturer URL; ComponentLink1URL: http://www.linear.com/; ComponentLink2Description: Datasheet; ComponentLink2URL: http://cds.linear.com/docs/en/datasheet/1937f.pdf; ComponentLink3Description: Package Specification; ComponentLink3URL: http://cds.linear.com/docs/en/packaging/SOT_6_05-08-1638.pdf
footprint LT-SC6-6-SC70_N (SOT23, 6-Leads, Body 2.2x1.35mm, Pitch 0.65mm, IPC Medium Density)
footprint LT-SC6-6-SC70_L (SOT23, 6-Leads, Body 2.2x1.35mm, Pitch 0.65mm, IPC High Density)
footprint LT-SC6-6-SC70_M (SOT23, 6-Leads, Body 2.2x1.35mm, Pitch 0.65mm, IPC Low Density)
pins: 1 SW (power) "Switch Pin. Connect inductor/diode here. Minimize trace area at this pin to reduce EMI.", 2 GND (power) "Ground Pin. Connect directly to local ground plane.", 3 FB (in) "Feedback Pin. Reference voltage is 95mV. Connect cathode of lowest LED and resistor here.", 4 ~{SHDN} (in) "Shutdown Pin. Connect to 1.5V or higher to enable device; 0.4V or less to disable device.", 5 GND (power) "Ground Pin. Connect to Pin 2 and to local ground plane.", 6 VIN (power) "Input Supply Pin. Must be locally bypassed."

## LT1937ESC6#PBF
designator U?
84%, Constant-Current / Voltage Ideal for Driving 4 White LEDs, 2.5 to 10 V Vin, 36 V Vout MAX, 6-pin SOT23 (SC6-6), -40 to 85 degC, Pb-Free; Manufacturer: Linear Technology; PartNumber: LT1937ESC6#PBF; Topology: Boost, LED Driver; Vin Min(V): 2.5; PackageVersion: Rev. B, 06/2010; PackageReference: SC6-6; PackageDescription: 6-Pin Plastic SC70, Body 2 x 1.25 mm, Pitch 0.65 mm; Supplier 1: Newark; Supplier Part Number 1: 78T3768; RoHS: TRUE; Mounting Technology: Surface Mount; Code_JEDEC: MO-203; ComponentLink1Description: Manufacturer URL; ComponentLink1URL: http://www.linear.com/; ComponentLink2Description: Datasheet; ComponentLink2URL: http://cds.linear.com/docs/en/datasheet/1937f.pdf; ComponentLink3Description: Package Specification; ComponentLink3URL: http://cds.linear.com/docs/en/packaging/SOT_6_05-08-1638.pdf
footprint LT-SC6-6-SC70_N (SOT23, 6-Leads, Body 2.2x1.35mm, Pitch 0.65mm, IPC Medium Density)
footprint LT-SC6-6-SC70_L (SOT23, 6-Leads, Body 2.2x1.35mm, Pitch 0.65mm, IPC High Density)
footprint LT-SC6-6-SC70_M (SOT23, 6-Leads, Body 2.2x1.35mm, Pitch 0.65mm, IPC Low Density)
pins: 1 SW (power) "Switch Pin. Connect inductor/diode here. Minimize trace area at this pin to reduce EMI.", 2 GND (power) "Ground Pin. Connect directly to local ground plane.", 3 FB (in) "Feedback Pin. Reference voltage is 95mV. Connect cathode of lowest LED and resistor here.", 4 ~{SHDN} (in) "Shutdown Pin. Connect to 1.5V or higher to enable device; 0.4V or less to disable device.", 5 GND (power) "Ground Pin. Connect to Pin 2 and to local ground plane.", 6 VIN (power) "Input Supply Pin. Must be locally bypassed."

## LT1937ESC6#TR
designator U?
84%, Constant-Current / Voltage Ideal for Driving 4 White LEDs, 2.5 to 10 V Vin, 36 V Vout MAX, 6-pin SOT23 (SC6-6), -40 to 85 degC, Tape and Reel; Manufacturer: Linear Technology; PartNumber: LT1937ESC6#TR; Topology: Boost, LED Driver; Vin Min(V): 2.5; PackageVersion: Rev. B, 06/2010; PackageReference: SC6-6; PackageDescription: 6-Pin Plastic SC70, Body 2 x 1.25 mm, Pitch 0.65 mm; Supplier 1: Digi-Key; Supplier Part Number 1: LT1937ESC6#TR-ND; Packing: Tape and Reel; RoHS: FALSE; Mounting Technology: Surface Mount; Code_JEDEC: MO-203; ComponentLink1Description: Manufacturer URL; ComponentLink1URL: http://www.linear.com/; ComponentLink2Description: Datasheet; ComponentLink2URL: http://cds.linear.com/docs/en/datasheet/1937f.pdf; ComponentLink3Description: Package Specification; ComponentLink3URL: http://cds.linear.com/docs/en/packaging/SOT_6_05-08-1638.pdf
footprint LT-SC6-6-SC70_N (SOT23, 6-Leads, Body 2.2x1.35mm, Pitch 0.65mm, IPC Medium Density)
footprint LT-SC6-6-SC70_L (SOT23, 6-Leads, Body 2.2x1.35mm, Pitch 0.65mm, IPC High Density)
footprint LT-SC6-6-SC70_M (SOT23, 6-Leads, Body 2.2x1.35mm, Pitch 0.65mm, IPC Low Density)
pins: 1 SW (power) "Switch Pin. Connect inductor/diode here. Minimize trace area at this pin to reduce EMI.", 2 GND (power) "Ground Pin. Connect directly to local ground plane.", 3 FB (in) "Feedback Pin. Reference voltage is 95mV. Connect cathode of lowest LED and resistor here.", 4 ~{SHDN} (in) "Shutdown Pin. Connect to 1.5V or higher to enable device; 0.4V or less to disable device.", 5 GND (power) "Ground Pin. Connect to Pin 2 and to local ground plane.", 6 VIN (power) "Input Supply Pin. Must be locally bypassed."

## LT1937ESC6#TRM
designator U?
84%, Constant-Current / Voltage Ideal for Driving 4 White LEDs, 2.5 to 10 V Vin, 36 V Vout MAX, 6-pin SOT23 (SC6-6), -40 to 85 degC, Mini Tape and Reel; Manufacturer: Linear Technology; PartNumber: LT1937ESC6#TRM; Topology: Boost, LED Driver; Vin Min(V): 2.5; PackageVersion: Rev. B, 06/2010; PackageReference: SC6-6; PackageDescription: 6-Pin Plastic SC70, Body 2 x 1.25 mm, Pitch 0.65 mm; Supplier 1: Digi-Key; Supplier Part Number 1: LT1937ESC6#TRM-ND; Packing: Mini Tape and Reel; RoHS: FALSE; Mounting Technology: Surface Mount; Code_JEDEC: MO-203; ComponentLink1Description: Manufacturer URL; ComponentLink1URL: http://www.linear.com/; ComponentLink2Description: Datasheet; ComponentLink2URL: http://cds.linear.com/docs/en/datasheet/1937f.pdf; ComponentLink3Description: Package Specification; ComponentLink3URL: http://cds.linear.com/docs/en/packaging/SOT_6_05-08-1638.pdf
footprint LT-SC6-6-SC70_N (SOT23, 6-Leads, Body 2.2x1.35mm, Pitch 0.65mm, IPC Medium Density)
footprint LT-SC6-6-SC70_L (SOT23, 6-Leads, Body 2.2x1.35mm, Pitch 0.65mm, IPC High Density)
footprint LT-SC6-6-SC70_M (SOT23, 6-Leads, Body 2.2x1.35mm, Pitch 0.65mm, IPC Low Density)
pins: 1 SW (power) "Switch Pin. Connect inductor/diode here. Minimize trace area at this pin to reduce EMI.", 2 GND (power) "Ground Pin. Connect directly to local ground plane.", 3 FB (in) "Feedback Pin. Reference voltage is 95mV. Connect cathode of lowest LED and resistor here.", 4 ~{SHDN} (in) "Shutdown Pin. Connect to 1.5V or higher to enable device; 0.4V or less to disable device.", 5 GND (power) "Ground Pin. Connect to Pin 2 and to local ground plane.", 6 VIN (power) "Input Supply Pin. Must be locally bypassed."

## LT1937ESC6#TRMPBF
designator U?
84%, Constant-Current / Voltage Ideal for Driving 4 White LEDs, 2.5 to 10 V Vin, 36 V Vout MAX, 6-pin SOT23 (SC6-6), -40 to 85 degC, Pb-Free, Mini Tape and Reel; Manufacturer: Linear Technology; PartNumber: LT1937ESC6#TRMPBF; Topology: Boost, LED Driver; Vin Min(V): 2.5; PackageVersion: Rev. B, 06/2010; PackageReference: SC6-6; PackageDescription: 6-Pin Plastic SC70, Body 2 x 1.25 mm, Pitch 0.65 mm; Supplier 1: Digi-Key; Supplier Part Number 1: LT1937ESC6#TRMPBF-ND; Packing: Mini Tape and Reel; RoHS: TRUE; Mounting Technology: Surface Mount; Code_JEDEC: MO-203; ComponentLink1Description: Manufacturer URL; ComponentLink1URL: http://www.linear.com/; ComponentLink2Description: Datasheet; ComponentLink2URL: http://cds.linear.com/docs/en/datasheet/1937f.pdf; ComponentLink3Description: Package Specification; ComponentLink3URL: http://cds.linear.com/docs/en/packaging/SOT_6_05-08-1638.pdf
footprint LT-SC6-6-SC70_N (SOT23, 6-Leads, Body 2.2x1.35mm, Pitch 0.65mm, IPC Medium Density)
footprint LT-SC6-6-SC70_L (SOT23, 6-Leads, Body 2.2x1.35mm, Pitch 0.65mm, IPC High Density)
footprint LT-SC6-6-SC70_M (SOT23, 6-Leads, Body 2.2x1.35mm, Pitch 0.65mm, IPC Low Density)
pins: 1 SW (power) "Switch Pin. Connect inductor/diode here. Minimize trace area at this pin to reduce EMI.", 2 GND (power) "Ground Pin. Connect directly to local ground plane.", 3 FB (in) "Feedback Pin. Reference voltage is 95mV. Connect cathode of lowest LED and resistor here.", 4 ~{SHDN} (in) "Shutdown Pin. Connect to 1.5V or higher to enable device; 0.4V or less to disable device.", 5 GND (power) "Ground Pin. Connect to Pin 2 and to local ground plane.", 6 VIN (power) "Input Supply Pin. Must be locally bypassed."

## LT1937ESC6#TRPBF
designator U?
84%, Constant-Current / Voltage Ideal for Driving 4 White LEDs, 2.5 to 10 V Vin, 36 V Vout MAX, 6-pin SOT23 (SC6-6), -40 to 85 degC, Pb-Free, Tape and Reel; Manufacturer: Linear Technology; PartNumber: LT1937ESC6#TRPBF; Topology: Boost, LED Driver; Vin Min(V): 2.5; PackageVersion: Rev. B, 06/2010; PackageReference: SC6-6; PackageDescription: 6-Pin Plastic SC70, Body 2 x 1.25 mm, Pitch 0.65 mm; Supplier 1: Digi-Key; Supplier Part Number 1: LT1937ESC6#TRPBF-ND; Packing: Tape and Reel; RoHS: TRUE; Mounting Technology: Surface Mount; Code_JEDEC: MO-203; ComponentLink1Description: Manufacturer URL; ComponentLink1URL: http://www.linear.com/; ComponentLink2Description: Datasheet; ComponentLink2URL: http://cds.linear.com/docs/en/datasheet/1937f.pdf; ComponentLink3Description: Package Specification; ComponentLink3URL: http://cds.linear.com/docs/en/packaging/SOT_6_05-08-1638.pdf
footprint LT-SC6-6-SC70_N (SOT23, 6-Leads, Body 2.2x1.35mm, Pitch 0.65mm, IPC Medium Density)
footprint LT-SC6-6-SC70_L (SOT23, 6-Leads, Body 2.2x1.35mm, Pitch 0.65mm, IPC High Density)
footprint LT-SC6-6-SC70_M (SOT23, 6-Leads, Body 2.2x1.35mm, Pitch 0.65mm, IPC Low Density)
pins: 1 SW (power) "Switch Pin. Connect inductor/diode here. Minimize trace area at this pin to reduce EMI.", 2 GND (power) "Ground Pin. Connect directly to local ground plane.", 3 FB (in) "Feedback Pin. Reference voltage is 95mV. Connect cathode of lowest LED and resistor here.", 4 ~{SHDN} (in) "Shutdown Pin. Connect to 1.5V or higher to enable device; 0.4V or less to disable device.", 5 GND (power) "Ground Pin. Connect to Pin 2 and to local ground plane.", 6 VIN (power) "Input Supply Pin. Must be locally bypassed."

## LT3003EMSE
designator U?
3-Channel LED Ballaster with PWM, 3 to 40 V Vin, 10-pin SOP (MSE-10-EDP), -40 to 125 degC; Manufacturer: Linear Technology; PartNumber: LT3003EMSE; Vin Min(V): 3; DatasheetVersion: Rev. A; PackageVersion: Rev. C, 08/2009; PackageReference: MSE-10; PackageDescription: 10-Pin Plastic MSOP, Exposed Die Pad, Body 3 x 3 mm, Pitch 0.5 mm; RoHS: FALSE; Topology: Ballaster; Mounting Technology: Surface Mount; ComponentLink1Description: Manufacturer URL; ComponentLink1URL: http://www.linear.com/; ComponentLink2Description: Datasheet; ComponentLink2URL: http://cds.linear.com/docs/en/datasheet/3003fa.pdf; ComponentLink3Description: Package Specification; ComponentLink3URL: http://cds.linear.com/docs/en/datasheet/3481fc.pdf
footprint LT-MSE-10-EDP-2060x1830TP_N (SOP, 10-Leads, Body 3.1x3.1mm, Pitch 0.5mm, Thermal Pad 2.17x1.94mm, IPC Medium Density)
footprint LT-MSE-10-EDP-2060x1830TP_L (SOP, 10-Leads, Body 3.1x3.1mm, Pitch 0.5mm, Thermal Pad 2.17x1.94mm, IPC High Density)
footprint LT-MSE-10-EDP-2060x1830TP_M (SOP, 10-Leads, Body 3.1x3.1mm, Pitch 0.5mm, Thermal Pad 2.17x1.94mm, IPC Low Density)
pins: 1 LED1 (in) "Controlled current input for a string of LEDs with a cathode lead connected to the pin. Connect the first string of LEDs to this pin.", 2 LED2 (in) "Controlled current input for a string of LEDs with a cathode lead connected to the pin. Connect the second string of LEDs to this pin.", 3 LED3 (in) "Controlled current input for a string of LEDs with a cathode lead connected to the pin. Connect the third string of LEDs to this pin.", 4 VMAX (in) "Boost: Connect to VOUT. Buck Mode: Connect to Input Supply. Buck-Boost Mode: Connect to VOUT.", 5 VIN (power) "Input Supply, Upper Rail. This pin must be locally bypassed with a capacitor to ground. VIN powers the internal control circuitry.", 6 PWM (in) "Input Pin for PWM Dimming Control. A PWM signal above 0.5V (on threshold) turns the LT3003 channels on. A PWM signal below 0.5V completely disconnects each LED string. If the application does not require PWM dimming, then (See Datasheet)", 7 ~{OT1} (oc) "Overtemperature Output. O\T\1\ pulls 100uA from the pin when the junction temperature exceeds 125degC. The part has to cool down by 6degC for the flag to reset; ideal for providing an overtemperature flag to the system (See Datasheet)", 8 ~{OT2} (oc) "Overtemperature Output. O\T\2\ Pulls 300uA from the pin when the junction temperature exceeds 125degC. The part has to cool down by 6degC for the flag to reset; ideal for connecting to the switching regulator gm error (See Datasheet)", 9 ~{SHDN} (in) "Micropower Shutdown Pin. Below 0.7V shuts down the IC. Typically IVIN = 4uA for SHDN = 0V.", 10 VEE (power) "Lower Rail.", 11 EP (power) "GND. The ground for the IC should be soldered to a continuous copper ground plane under the LT3003 die. Soldering the Exposed Pad to the copper ground plane under the device will reduce thermal resistance and increase the (See Datasheet)"

## LT3003EMSE#PBF
designator U?
3-Channel LED Ballaster with PWM, 3 to 40 V Vin, 10-pin SOP (MSE-10-EDP), -40 to 125 degC, Pb-Free; Manufacturer: Linear Technology; PartNumber: LT3003EMSE#PBF; Vin Min(V): 3; DatasheetVersion: Rev. A; PackageVersion: Rev. C, 08/2009; PackageReference: MSE-10; PackageDescription: 10-Pin Plastic MSOP, Exposed Die Pad, Body 3 x 3 mm, Pitch 0.5 mm; Supplier 1: Digi-Key; Supplier Part Number 1: LT3003EMSE#PBF-ND; Supplier 2: Newark; Supplier Part Number 2: 57M7831; RoHS: TRUE; Topology: Ballaster; Mounting Technology: Surface Mount; ComponentLink1Description: Manufacturer URL; ComponentLink1URL: http://www.linear.com/; ComponentLink2Description: Datasheet; ComponentLink2URL: http://cds.linear.com/docs/en/datasheet/3003fa.pdf; ComponentLink3Description: Package Specification; ComponentLink3URL: http://cds.linear.com/docs/en/datasheet/3481fc.pdf
footprint LT-MSE-10-EDP-2060x1830TP_N (SOP, 10-Leads, Body 3.1x3.1mm, Pitch 0.5mm, Thermal Pad 2.17x1.94mm, IPC Medium Density)
footprint LT-MSE-10-EDP-2060x1830TP_L (SOP, 10-Leads, Body 3.1x3.1mm, Pitch 0.5mm, Thermal Pad 2.17x1.94mm, IPC High Density)
footprint LT-MSE-10-EDP-2060x1830TP_M (SOP, 10-Leads, Body 3.1x3.1mm, Pitch 0.5mm, Thermal Pad 2.17x1.94mm, IPC Low Density)
pins: 1 LED1 (in) "Controlled current input for a string of LEDs with a cathode lead connected to the pin. Connect the first string of LEDs to this pin.", 2 LED2 (in) "Controlled current input for a string of LEDs with a cathode lead connected to the pin. Connect the second string of LEDs to this pin.", 3 LED3 (in) "Controlled current input for a string of LEDs with a cathode lead connected to the pin. Connect the third string of LEDs to this pin.", 4 VMAX (in) "Boost: Connect to VOUT. Buck Mode: Connect to Input Supply. Buck-Boost Mode: Connect to VOUT.", 5 VIN (power) "Input Supply, Upper Rail. This pin must be locally bypassed with a capacitor to ground. VIN powers the internal control circuitry.", 6 PWM (in) "Input Pin for PWM Dimming Control. A PWM signal above 0.5V (on threshold) turns the LT3003 channels on. A PWM signal below 0.5V completely disconnects each LED string. If the application does not require PWM dimming, then (See Datasheet)", 7 ~{OT1} (oc) "Overtemperature Output. O\T\1\ pulls 100uA from the pin when the junction temperature exceeds 125degC. The part has to cool down by 6degC for the flag to reset; ideal for providing an overtemperature flag to the system (See Datasheet)", 8 ~{OT2} (oc) "Overtemperature Output. O\T\2\ Pulls 300uA from the pin when the junction temperature exceeds 125degC. The part has to cool down by 6degC for the flag to reset; ideal for connecting to the switching regulator gm error (See Datasheet)", 9 ~{SHDN} (in) "Micropower Shutdown Pin. Below 0.7V shuts down the IC. Typically IVIN = 4uA for SHDN = 0V.", 10 VEE (power) "Lower Rail.", 11 EP (power) "GND. The ground for the IC should be soldered to a continuous copper ground plane under the LT3003 die. Soldering the Exposed Pad to the copper ground plane under the device will reduce thermal resistance and increase the (See Datasheet)"

## LT3003EMSE#TR
designator U?
3-Channel LED Ballaster with PWM, 3 to 40 V Vin, 10-pin SOP (MSE-10-EDP), -40 to 125 degC, Tape and Reel; Manufacturer: Linear Technology; PartNumber: LT3003EMSE#TR; Vin Min(V): 3; DatasheetVersion: Rev. A; PackageVersion: Rev. C, 08/2009; PackageReference: MSE-10; PackageDescription: 10-Pin Plastic MSOP, Exposed Die Pad, Body 3 x 3 mm, Pitch 0.5 mm; Packing: Tape and Reel; RoHS: FALSE; Topology: Ballaster; Mounting Technology: Surface Mount; ComponentLink1Description: Manufacturer URL; ComponentLink1URL: http://www.linear.com/; ComponentLink2Description: Datasheet; ComponentLink2URL: http://cds.linear.com/docs/en/datasheet/3003fa.pdf; ComponentLink3Description: Package Specification; ComponentLink3URL: http://cds.linear.com/docs/en/datasheet/3481fc.pdf
footprint LT-MSE-10-EDP-2060x1830TP_N (SOP, 10-Leads, Body 3.1x3.1mm, Pitch 0.5mm, Thermal Pad 2.17x1.94mm, IPC Medium Density)
footprint LT-MSE-10-EDP-2060x1830TP_L (SOP, 10-Leads, Body 3.1x3.1mm, Pitch 0.5mm, Thermal Pad 2.17x1.94mm, IPC High Density)
footprint LT-MSE-10-EDP-2060x1830TP_M (SOP, 10-Leads, Body 3.1x3.1mm, Pitch 0.5mm, Thermal Pad 2.17x1.94mm, IPC Low Density)
pins: 1 LED1 (in) "Controlled current input for a string of LEDs with a cathode lead connected to the pin. Connect the first string of LEDs to this pin.", 2 LED2 (in) "Controlled current input for a string of LEDs with a cathode lead connected to the pin. Connect the second string of LEDs to this pin.", 3 LED3 (in) "Controlled current input for a string of LEDs with a cathode lead connected to the pin. Connect the third string of LEDs to this pin.", 4 VMAX (in) "Boost: Connect to VOUT. Buck Mode: Connect to Input Supply. Buck-Boost Mode: Connect to VOUT.", 5 VIN (power) "Input Supply, Upper Rail. This pin must be locally bypassed with a capacitor to ground. VIN powers the internal control circuitry.", 6 PWM (in) "Input Pin for PWM Dimming Control. A PWM signal above 0.5V (on threshold) turns the LT3003 channels on. A PWM signal below 0.5V completely disconnects each LED string. If the application does not require PWM dimming, then (See Datasheet)", 7 ~{OT1} (oc) "Overtemperature Output. O\T\1\ pulls 100uA from the pin when the junction temperature exceeds 125degC. The part has to cool down by 6degC for the flag to reset; ideal for providing an overtemperature flag to the system (See Datasheet)", 8 ~{OT2} (oc) "Overtemperature Output. O\T\2\ Pulls 300uA from the pin when the junction temperature exceeds 125degC. The part has to cool down by 6degC for the flag to reset; ideal for connecting to the switching regulator gm error (See Datasheet)", 9 ~{SHDN} (in) "Micropower Shutdown Pin. Below 0.7V shuts down the IC. Typically IVIN = 4uA for SHDN = 0V.", 10 VEE (power) "Lower Rail.", 11 EP (power) "GND. The ground for the IC should be soldered to a continuous copper ground plane under the LT3003 die. Soldering the Exposed Pad to the copper ground plane under the device will reduce thermal resistance and increase the (See Datasheet)"